# EAGLE library part MSP430FR5739_RHA_40 (library weather_station)
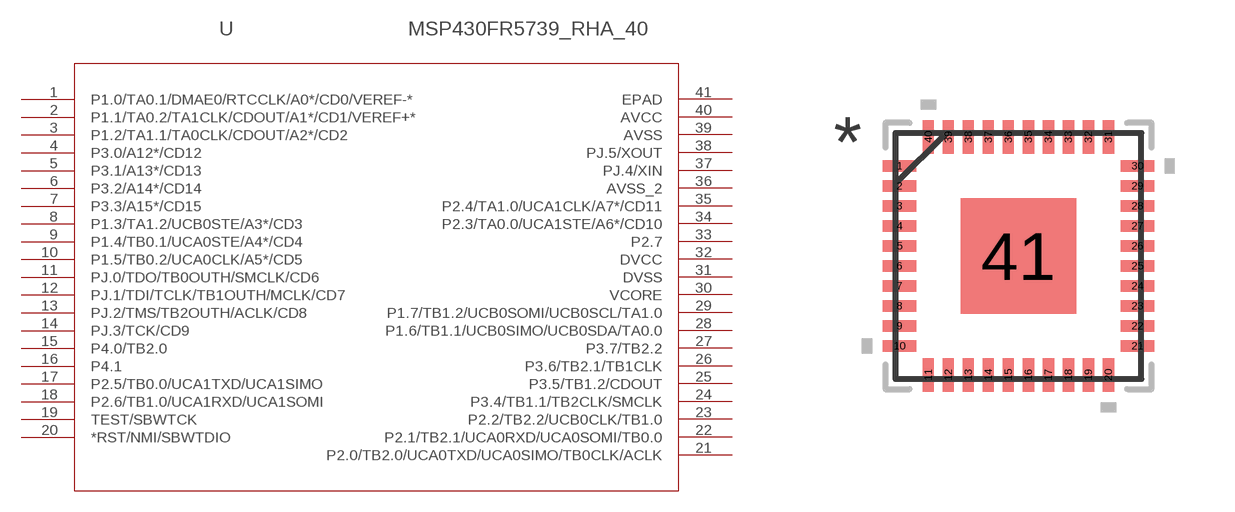
[diagram p15: symbol with the pads of RHA40_2P9X2P9; footprint RHA40_2P9X2P9]

Designator prefix U

## MSP430FR5739_RHA_40 (DATASHEETURL: http://www.ti.com/lit/gpn/MSP430FR5739; DESCRIPTION: MSP430FR573x,MSP430FR572x Mixed Signal Microcontroller; FAMILY_NAME: FRAM Series; GENERIC_PART_NUMBER: MSP430FR5739; INDUSTRY_STD_PKG_TYPE: VQFN; MANUFACTURER: Texas Instruments; MANUFACTURER_PART_NUMBER: msp430fr5739_rha_40; PACKAGE_DESIGNATOR: RHA; PIN_COUNT: 40; VENDOR: Texas Instruments)  [RHA40_2P9X2P9]
1  P1.0/TA0.1/DMAE0/RTCCLK/A0*/CD0/VEREF-*
2  P1.1/TA0.2/TA1CLK/CDOUT/A1*/CD1/VEREF+*
3  P1.2/TA1.1/TA0CLK/CDOUT/A2*/CD2
4  P3.0/A12*/CD12
5  P3.1/A13*/CD13
6  P3.2/A14*/CD14
7  P3.3/A15*/CD15
8  P1.3/TA1.2/UCB0STE/A3*/CD3
9  P1.4/TB0.1/UCA0STE/A4*/CD4
10  P1.5/TB0.2/UCA0CLK/A5*/CD5
11  PJ.0/TDO/TB0OUTH/SMCLK/CD6
12  PJ.1/TDI/TCLK/TB1OUTH/MCLK/CD7
13  PJ.2/TMS/TB2OUTH/ACLK/CD8
14  PJ.3/TCK/CD9
15  P4.0/TB2.0
16  P4.1
17  P2.5/TB0.0/UCA1TXD/UCA1SIMO
18  P2.6/TB1.0/UCA1RXD/UCA1SOMI
19  TEST/SBWTCK
20  *RST/NMI/SBWTDIO
21  P2.0/TB2.0/UCA0TXD/UCA0SIMO/TB0CLK/ACLK
22  P2.1/TB2.1/UCA0RXD/UCA0SOMI/TB0.0
23  P2.2/TB2.2/UCB0CLK/TB1.0
24  P3.4/TB1.1/TB2CLK/SMCLK
25  P3.5/TB1.2/CDOUT
26  P3.6/TB2.1/TB1CLK
27  P3.7/TB2.2
28  P1.6/TB1.1/UCB0SIMO/UCB0SDA/TA0.0
29  P1.7/TB1.2/UCB0SOMI/UCB0SCL/TA1.0
30  VCORE  pwr
31  DVSS  pwr
32  DVCC  pwr
33  P2.7
34  P2.3/TA0.0/UCA1STE/A6*/CD10
35  P2.4/TA1.0/UCA1CLK/A7*/CD11
36  AVSS_2  pwr
37  PJ.4/XIN
38  PJ.5/XOUT
39  AVSS  pwr
40  AVCC  pwr
41  EPAD  pas

## Footprint RHA40_2P9X2P9 (pad centres in mm)
smd 0.838 x 0.279: 1 -2.975,2.25; 2 -2.975,1.75; 3 -2.975,1.25; 4 -2.975,0.75; 5 -2.975,0.25; 6 -2.975,-0.25; 7 -2.975,-0.75; 8 -2.975,-1.25; 9 -2.975,-1.75; 10 -2.975,-2.25; 21 2.975,-2.25; 22 2.975,-1.75; 23 2.975,-1.25; 24 2.975,-0.75; 25 2.975,-0.25; 26 2.975,0.25; 27 2.975,0.75; 28 2.975,1.25; 29 2.975,1.75; 30 2.975,2.25
smd 0.279 x 0.838: 11 -2.251,-2.975; 12 -1.75,-2.975; 13 -1.25,-2.975; 14 -0.75,-2.975; 15 -0.25,-2.975; 16 0.25,-2.975; 17 0.75,-2.975; 18 1.25,-2.975; 19 1.75,-2.975; 20 2.251,-2.975; 31 2.251,2.975; 32 1.75,2.975; 33 1.25,2.975; 34 0.75,2.975; 35 0.25,2.975; 36 -0.25,2.975; 37 -0.75,2.975; 38 -1.25,2.975; 39 -1.75,2.975; 40 -2.251,2.975
smd 2.896 x 2.896: 41 0,0